# Altium footprint library electronpowered.PcbLib: 1 footprints
Each footprint in its own frame and in the unit in brackets; x right, y up, seen from the top. Pads: shape width x height; smd on the part's side, far side on the other; paste and mask are expansions set on the pad; w line width, h text height; cw(c..) or ccw(c..) is an arc to the next point about the centre after c.
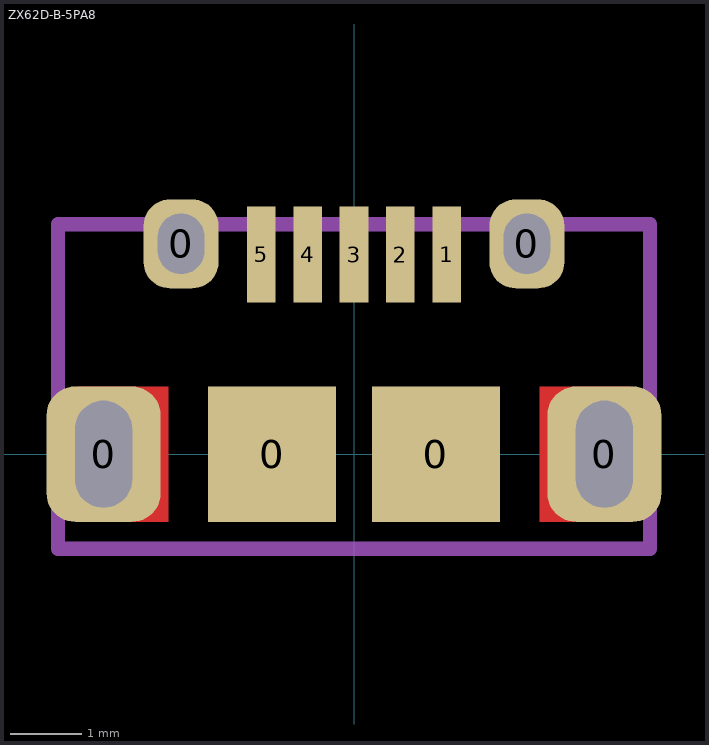
[diagram p0: the footprint, top view; thin cyan lines are the x and y axes]

## ZX62D-B-5PA8 [mm]
pads (11):
  rrect50% 1.6x1.9 hole 0.8 slot 1.5 at 90 deg: 0(-3.512,0) 0(3.512,0)
  rrect70% 1.05x1.25 hole 0.65 slot 0.85 at 90 deg: 0(-2.425,2.95) 0(2.425,2.95)
  rect 1.8x1.9 smd: 0(-1.15,0) 0(1.15,0)
  rect 0.4x1.35 smd: 1(1.3,2.8) 2(0.65,2.8) 3(0,2.8) 4(-0.65,2.8) 5(-1.3,2.8)
Top Layer:
  rectangle: -3.875,-0.95 -2.6,0.95
  region: 3.875,0.95 2.6,0.95 2.6,-0.95 3.875,-0.95
Top Courtyard:
  lines w0.2: 4.1,3.225 -4.15,3.225 -4.15,-1.325 4.15,-1.325 4.15,3.225
3D body "ZX62D-B-5PA8.stp": height 2.75, standoff -0.7, extent -4.047,-2.75 4.047,3.05